# Altium footprint library libreriaPcb.PcbLib: 683 footprints (part 27 of 44)
Each footprint in its own frame and in the unit in brackets; x right, y up, seen from the top. Pads: shape width x height; smd on the part's side, far side on the other; paste and mask are expansions set on the pad; w line width, h text height; cw(c..) or ccw(c..) is an arc to the next point about the centre after c.
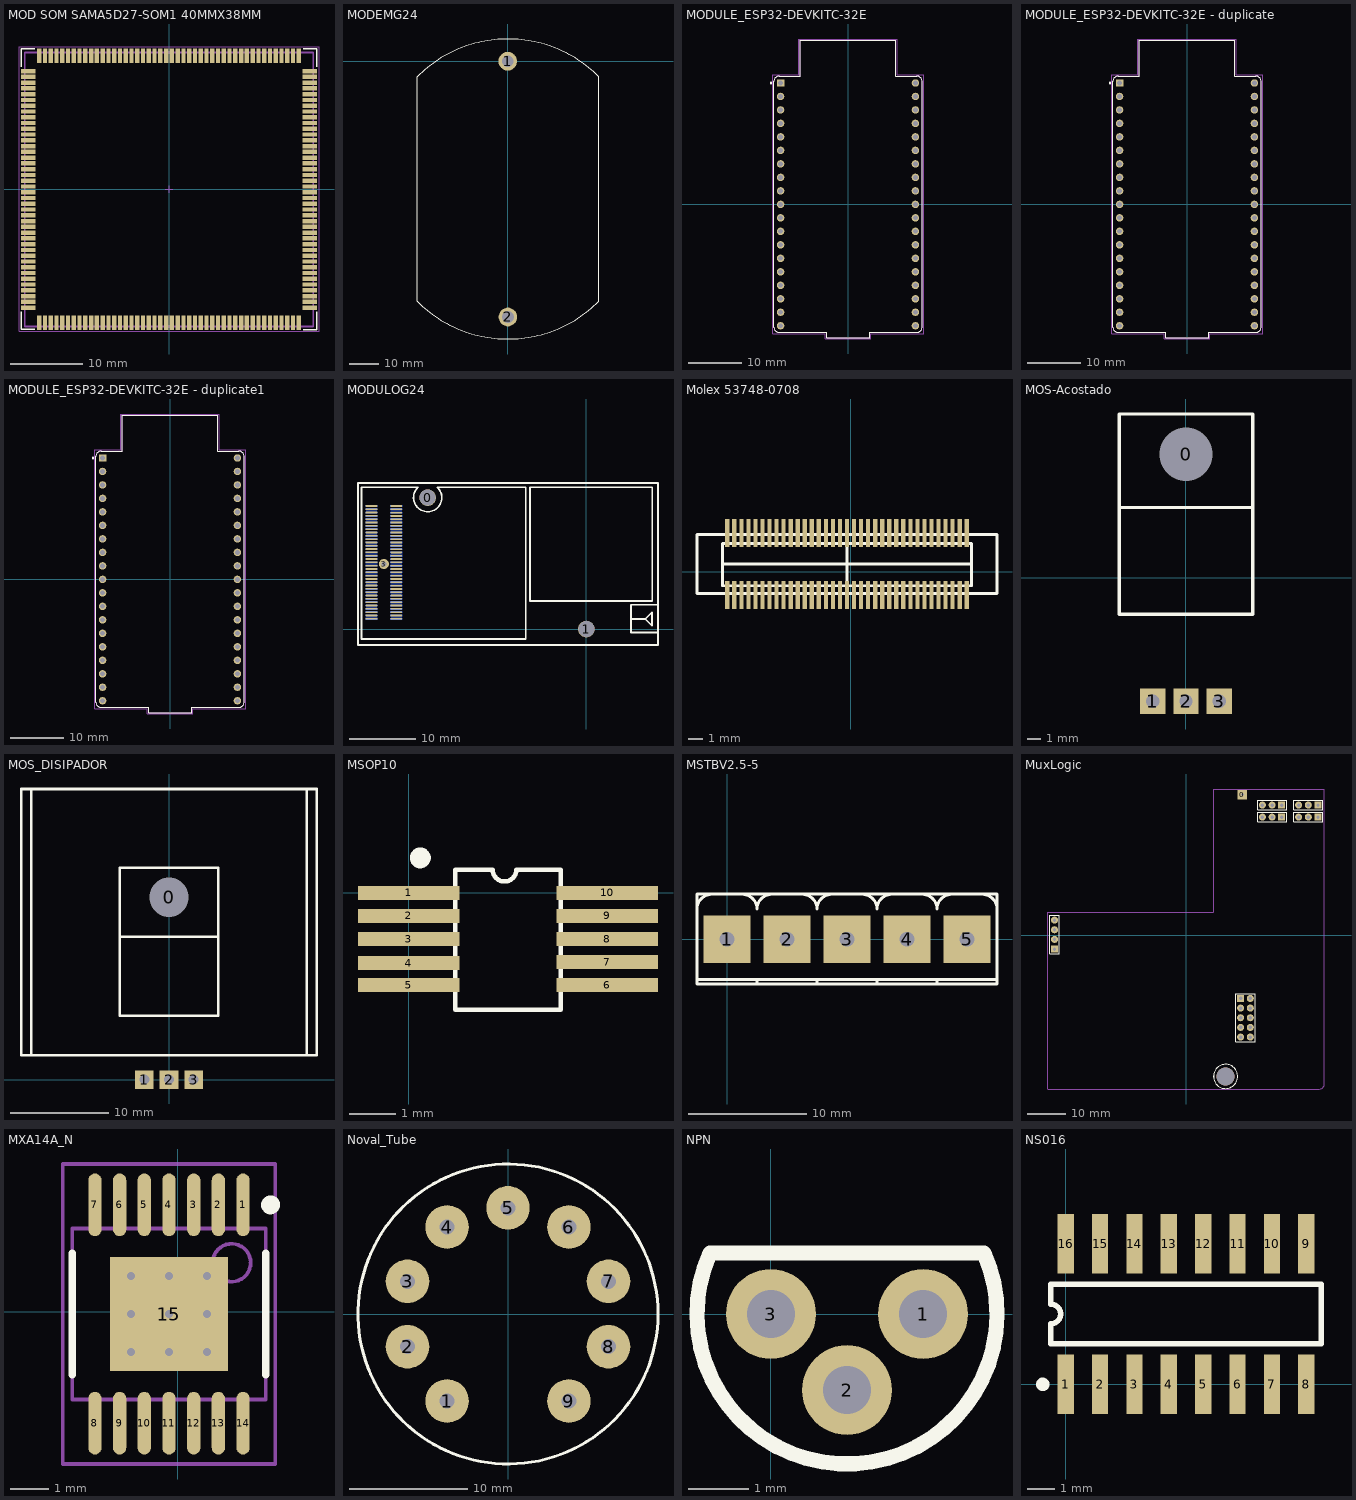
[diagram p26: the footprints below, top view; thin cyan lines are the x and y axes]

## MOD SOM SAMA5D27-SOM1 40MMX38MM [mm]
pads (176):
  rect 2x0.6 smd paste-0.025 mask-1: 1(-19.5,16.4) 2(-19.5,15.6) 3(-19.5,14.8) 4(-19.5,14) 5(-19.5,13.2) 6(-19.5,12.4) 7(-19.5,11.6) 8(-19.5,10.8) 9(-19.5,10) 10(-19.5,9.2) 11(-19.5,8.4) 12(-19.5,7.6) 13(-19.5,6.8) 14(-19.5,6) 15(-19.5,5.2) 16(-19.5,4.4) 17(-19.5,3.6) 18(-19.5,2.8) 19(-19.5,2) 20(-19.5,1.2) 21(-19.5,0.4) 22(-19.5,-0.4) 23(-19.5,-1.2) 24(-19.5,-2) 25(-19.5,-2.8) 26(-19.5,-3.6) 27(-19.5,-4.4) 28(-19.5,-5.2) 29(-19.5,-6) 30(-19.5,-6.8) 31(-19.5,-7.6) 32(-19.5,-8.4) 33(-19.5,-9.2) 34(-19.5,-10) 35(-19.5,-10.8) 36(-19.5,-11.6) 37(-19.5,-12.4) 38(-19.5,-13.2) 39(-19.5,-14) 40(-19.5,-14.8) 41(-19.5,-15.6) 42(-19.5,-16.4) 89(19.5,-16.4) 90(19.5,-15.6) 91(19.5,-14.8) 92(19.5,-14) 93(19.5,-13.2) 94(19.5,-12.4) 95(19.5,-11.6) 96(19.5,-10.8) 97(19.5,-10) 98(19.5,-9.2) 99(19.5,-8.4) 100(19.5,-7.6) 101(19.5,-6.8) 102(19.5,-6) 103(19.5,-5.2) 104(19.5,-4.4) 105(19.5,-3.6) 106(19.5,-2.8) 107(19.5,-2) 108(19.5,-1.2) 109(19.5,-0.4) 110(19.5,0.4) 111(19.5,1.2) 112(19.5,2) 113(19.5,2.8) 114(19.5,3.6) 115(19.5,4.4) 116(19.5,5.2) 117(19.5,6) 118(19.5,6.8) 119(19.5,7.6) 120(19.5,8.4) 121(19.5,9.2) 122(19.5,10) 123(19.5,10.8) 124(19.5,11.6) 125(19.5,12.4) 126(19.5,13.2) 127(19.5,14) 128(19.5,14.8) 129(19.5,15.6) 130(19.5,16.4)
  rect 0.6x2 smd paste-0.025 mask-1: 43(-18,-18.5) 44(-17.2,-18.5) 45(-16.4,-18.5) 46(-15.6,-18.5) 47(-14.8,-18.5) 48(-14,-18.5) 49(-13.2,-18.5) 50(-12.4,-18.5) 51(-11.6,-18.5) 52(-10.8,-18.5) 53(-10,-18.5) 54(-9.2,-18.5) 55(-8.4,-18.5) 56(-7.6,-18.5) 57(-6.8,-18.5) 58(-6,-18.5) 59(-5.2,-18.5) 60(-4.4,-18.5) 61(-3.6,-18.5) 62(-2.8,-18.5) 63(-2,-18.5) 64(-1.2,-18.5) 65(-0.4,-18.5) 66(0.4,-18.5) 67(1.2,-18.5) 68(2,-18.5) 69(2.8,-18.5) 70(3.6,-18.5) 71(4.4,-18.5) 72(5.2,-18.5) 73(6,-18.5) 74(6.8,-18.5) 75(7.6,-18.5) 76(8.4,-18.5) 77(9.2,-18.5) 78(10,-18.5) 79(10.8,-18.5) 80(11.6,-18.5) 81(12.4,-18.5) 82(13.2,-18.5) 83(14,-18.5) 84(14.8,-18.5) 85(15.6,-18.5) 86(16.4,-18.5) 87(17.2,-18.5) 88(18,-18.5) 131(18,18.5) 132(17.2,18.5) 133(16.4,18.5) 134(15.6,18.5) 135(14.8,18.5) 136(14,18.5) 137(13.2,18.5) 138(12.4,18.5) 139(11.6,18.5) 140(10.8,18.5) 141(10,18.5) 142(9.2,18.5) 143(8.4,18.5) 144(7.6,18.5) 145(6.8,18.5) 146(6,18.5) 147(5.2,18.5) 148(4.4,18.5) 149(3.6,18.5) 150(2.8,18.5) 151(2,18.5) 152(1.2,18.5) 153(0.4,18.5) 154(-0.4,18.5) 155(-1.2,18.5) 156(-2,18.5) 157(-2.8,18.5) 158(-3.6,18.5) 159(-4.4,18.5) 160(-5.2,18.5) 161(-6,18.5) 162(-6.8,18.5) 163(-7.6,18.5) 164(-8.4,18.5) 165(-9.2,18.5) 166(-10,18.5) 167(-10.8,18.5) 168(-11.6,18.5) 169(-12.4,18.5) 170(-13.2,18.5) 171(-14,18.5) 172(-14.8,18.5) 173(-15.6,18.5) 174(-16.4,18.5) 175(-17.2,18.5) 176(-18,18.5)
Top Overlay:
  lines w0.2: -20.5,-17 -20.5,-19.4 -18.6,-19.4 ; -20.5,17 -20.5,19.5 -18.6,19.5 ; 18.6,-19.5 20.5,-19.5 20.5,-17 ; 18.6,19.5 20.5,19.5 20.5,17
  text "." at -21.7,18.6 h1
Top Solder:
  drawing of 176 lines, arcs and shapes, not listed
Mechanical 11:
  lines w0.254: -20,-19 -20,19 20,19 20,-19 -20,-19
  text "1" at -20.2,16.5 h1
Mechanical 15:
  lines w0.1: -0.5,0 0.5,0 ; 0,-0.5 0,0.5 ; -20.8,-19.7 20.8,-19.7 20.8,19.8 -20.8,19.8 -20.8,-19.7
3D body: height 1.2, standoff 0.8, extent -1.1,-10.2 12.6,3.5
3D body: height 1.2, standoff 0.8, extent -13.6,-12.6 -9.8,-8.9
3D body: height 1.2, standoff 0.8, extent -6.95,13.05 -5.45,14.55
3D body: height 1.2, standoff 0.8, extent -12.7,10.1 -9.7,13.1
3D body: height 1.2, standoff 0.8, extent 6.4,7.45 12,12.35
3D body: height 1, standoff 0, extent -20,-19 20,19

## MODEMG24 [mm]
pads (2):
  round 6.35 hole 4: 1(0,0) 2(0.064,-86.988)
Top Overlay:
  lines w0.254: -30.788,-5.239 -30.81,-81.679 ccw(c0.081,-50.782) 30.978,-81.673 31,-5.232 ; -30.788,-5.239 cw(c0.109,-36.13) 31,-5.233

## MODULE_ESP32-DEVKITC-32E [mm]
pads (38):
  rect 1.408x1.408 / inner round 1.408 / far side rect 1.408x1.408 hole 0.9: J2_1(-12.7,22.835)
  round 1.408 hole 0.9: J2_2(-12.7,20.295) J2_3(-12.7,17.755) J2_4(-12.7,15.215) J2_5(-12.7,12.675) J2_6(-12.7,10.135) J2_7(-12.7,7.595) J2_8(-12.7,5.055) J2_9(-12.7,2.515) J2_10(-12.7,-0.025) J2_11(-12.7,-2.565) J2_12(-12.7,-5.105) J2_13(-12.7,-7.645) J2_14(-12.7,-10.185) J2_15(-12.7,-12.725) J2_16(-12.7,-15.265) J2_17(-12.7,-17.805) J2_18(-12.7,-20.345) J2_19(-12.7,-22.885) J3_1(12.7,22.835) J3_2(12.7,20.295) J3_3(12.7,17.755) J3_4(12.7,15.215) J3_5(12.7,12.675) J3_6(12.7,10.135) J3_7(12.7,7.595) J3_8(12.7,5.055) J3_9(12.7,2.515) J3_10(12.7,-0.025) J3_11(12.7,-2.565) J3_12(12.7,-5.105) J3_13(12.7,-7.645) J3_14(12.7,-10.185) J3_15(12.7,-12.725) J3_16(12.7,-15.265) J3_17(12.7,-17.805) J3_18(12.7,-20.345) J3_19(12.7,-22.885)
Top Overlay:
  circle w0.2: c-14.5,22.835 r0.1
  lines w0.127: -13.97,-23.13 ccw(c-12.97,-23.13) -12.97,-24.13 -4.05,-24.13 -4.05,-25.13 4.05,-25.13 4.05,-24.13 12.97,-24.13 ccw(c12.97,-23.13) 13.97,-23.13 13.97,23.13 ccw(c12.97,23.13) 12.97,24.13 9,24.13 9,30.87 -9,30.87 -9,24.13 -12.97,24.13 ccw(c-12.97,23.13) -13.97,23.13 -13.97,-23.13
Mechanical 13:
  circle w0.2: c-14.5,22.835 r0.1
  lines w0.127: -13.97,-23.13 ccw(c-12.97,-23.13) -12.97,-24.13 -4.05,-24.13 -4.05,-25.13 4.05,-25.13 4.05,-24.13 12.97,-24.13 ccw(c12.97,-23.13) 13.97,-23.13 13.97,23.13 ccw(c12.97,23.13) 12.97,24.13 9,24.13 9,30.87 -9,30.87 -9,24.13 -12.97,24.13 ccw(c-12.97,23.13) -13.97,23.13 -13.97,-23.13
Mechanical 15:
  lines w0.05: -14.22,-24.38 -4.3,-24.38 -4.3,-25.38 4.3,-25.38 4.3,-24.38 14.22,-24.38 14.22,24.38 9.25,24.38 9.25,31.12 -9.25,31.12 -9.25,24.38 -14.22,24.38 -14.22,-24.38
3D body "step_temp.STEP": height 6.69, standoff -6, extent -13.97,-24.8 13.97,30.3

## MODULE_ESP32-DEVKITC-32E - duplicate [mm]
pads (38):
  rect 1.408x1.408 / inner round 1.408 / far side rect 1.408x1.408 hole 0.9: J2_1(-12.7,22.835)
  round 1.408 hole 0.9: J2_2(-12.7,20.295) J2_3(-12.7,17.755) J2_4(-12.7,15.215) J2_5(-12.7,12.675) J2_6(-12.7,10.135) J2_7(-12.7,7.595) J2_8(-12.7,5.055) J2_9(-12.7,2.515) J2_10(-12.7,-0.025) J2_11(-12.7,-2.565) J2_12(-12.7,-5.105) J2_13(-12.7,-7.645) J2_14(-12.7,-10.185) J2_15(-12.7,-12.725) J2_16(-12.7,-15.265) J2_17(-12.7,-17.805) J2_18(-12.7,-20.345) J2_19(-12.7,-22.885) J3_1(12.7,22.835) J3_2(12.7,20.295) J3_3(12.7,17.755) J3_4(12.7,15.215) J3_5(12.7,12.675) J3_6(12.7,10.135) J3_7(12.7,7.595) J3_8(12.7,5.055) J3_9(12.7,2.515) J3_10(12.7,-0.025) J3_11(12.7,-2.565) J3_12(12.7,-5.105) J3_13(12.7,-7.645) J3_14(12.7,-10.185) J3_15(12.7,-12.725) J3_16(12.7,-15.265) J3_17(12.7,-17.805) J3_18(12.7,-20.345) J3_19(12.7,-22.885)
Top Overlay:
  circle w0.2: c-14.5,22.835 r0.1
  lines w0.127: -13.97,-23.13 ccw(c-12.97,-23.13) -12.97,-24.13 -4.05,-24.13 -4.05,-25.13 4.05,-25.13 4.05,-24.13 12.97,-24.13 ccw(c12.97,-23.13) 13.97,-23.13 13.97,23.13 ccw(c12.97,23.13) 12.97,24.13 9,24.13 9,30.87 -9,30.87 -9,24.13 -12.97,24.13 ccw(c-12.97,23.13) -13.97,23.13 -13.97,-23.13
Mechanical 13:
  circle w0.2: c-14.5,22.835 r0.1
  lines w0.127: -13.97,-23.13 ccw(c-12.97,-23.13) -12.97,-24.13 -4.05,-24.13 -4.05,-25.13 4.05,-25.13 4.05,-24.13 12.97,-24.13 ccw(c12.97,-23.13) 13.97,-23.13 13.97,23.13 ccw(c12.97,23.13) 12.97,24.13 9,24.13 9,30.87 -9,30.87 -9,24.13 -12.97,24.13 ccw(c-12.97,23.13) -13.97,23.13 -13.97,-23.13
Mechanical 15:
  lines w0.05: -14.22,-24.38 -14.22,24.38 -9.25,24.38 -9.25,31.12 9.25,31.12 9.25,24.38 14.22,24.38 14.22,-24.38 4.3,-24.38 4.3,-25.38 -4.3,-25.38 -4.3,-24.38 -14.22,-24.38
3D body "step_temp.STEP": height 6.69, standoff -6, extent -13.97,-24.8 13.97,30.3

## MODULE_ESP32-DEVKITC-32E - duplicate1 [mm]
pads (38):
  rect 1.408x1.408 / inner round 1.408 / far side rect 1.408x1.408 hole 0.9: J2_1(-12.7,22.835)
  round 1.408 hole 0.9: J2_2(-12.7,20.295) J2_3(-12.7,17.755) J2_4(-12.7,15.215) J2_5(-12.7,12.675) J2_6(-12.7,10.135) J2_7(-12.7,7.595) J2_8(-12.7,5.055) J2_9(-12.7,2.515) J2_10(-12.7,-0.025) J2_11(-12.7,-2.565) J2_12(-12.7,-5.105) J2_13(-12.7,-7.645) J2_14(-12.7,-10.185) J2_15(-12.7,-12.725) J2_16(-12.7,-15.265) J2_17(-12.7,-17.805) J2_18(-12.7,-20.345) J2_19(-12.7,-22.885) J3_1(12.7,22.835) J3_2(12.7,20.295) J3_3(12.7,17.755) J3_4(12.7,15.215) J3_5(12.7,12.675) J3_6(12.7,10.135) J3_7(12.7,7.595) J3_8(12.7,5.055) J3_9(12.7,2.515) J3_10(12.7,-0.025) J3_11(12.7,-2.565) J3_12(12.7,-5.105) J3_13(12.7,-7.645) J3_14(12.7,-10.185) J3_15(12.7,-12.725) J3_16(12.7,-15.265) J3_17(12.7,-17.805) J3_18(12.7,-20.345) J3_19(12.7,-22.885)
Top Overlay:
  circle w0.2: c-14.5,22.835 r0.1
  lines w0.127: -13.97,-23.13 ccw(c-12.97,-23.13) -12.97,-24.13 -4.05,-24.13 -4.05,-25.13 4.05,-25.13 4.05,-24.13 12.97,-24.13 ccw(c12.97,-23.13) 13.97,-23.13 13.97,23.13 ccw(c12.97,23.13) 12.97,24.13 9,24.13 9,30.87 -9,30.87 -9,24.13 -12.97,24.13 ccw(c-12.97,23.13) -13.97,23.13 -13.97,-23.13
Mechanical 13:
  circle w0.2: c-14.5,22.835 r0.1
  lines w0.127: -13.97,-23.13 ccw(c-12.97,-23.13) -12.97,-24.13 -4.05,-24.13 -4.05,-25.13 4.05,-25.13 4.05,-24.13 12.97,-24.13 ccw(c12.97,-23.13) 13.97,-23.13 13.97,23.13 ccw(c12.97,23.13) 12.97,24.13 9,24.13 9,30.87 -9,30.87 -9,24.13 -12.97,24.13 ccw(c-12.97,23.13) -13.97,23.13 -13.97,-23.13
Mechanical 15:
  lines w0.05: -14.22,-24.38 -4.3,-24.38 -4.3,-25.38 4.3,-25.38 4.3,-24.38 14.22,-24.38 14.22,24.38 9.25,24.38 9.25,31.12 -9.25,31.12 -9.25,24.38 -14.22,24.38 -14.22,-24.38
3D body "step_temp.STEP": height 6.69, standoff -6, extent -13.97,-24.8 13.97,30.3

## MODULOG24 [mm]
pads (144):
  round 0.254 on Top Overlay: 0(-30.5,9.8)
  round 2.5 hole 2.4: 0(-23.9,19.8) 1(0,0)
  round 1.524 hole 0.762: 3(-30.5,9.8)
  rect 1.8x0.25 smd: A1(-32.367,1.55) A10(-32.367,6.05) A20(-32.367,11.05) A30(-32.367,16.05) A41(-28.633,16.043) A51(-28.633,11.043) A61(-28.633,6.043)
  oval 1.8x0.25 smd: A2(-32.367,2.05) A3(-32.367,2.55) A4(-32.367,3.05) A5(-32.367,3.55) A6(-32.367,4.05) A7(-32.367,4.55) A8(-32.367,5.05) A9(-32.367,5.55) A11(-32.367,6.55) A12(-32.367,7.05) A13(-32.367,7.55) A14(-32.367,8.05) A15(-32.367,8.55) A16(-32.367,9.05) A17(-32.367,9.55) A18(-32.367,10.05) A19(-32.367,10.55) A21(-32.367,11.55) A22(-32.367,12.05) A23(-32.367,12.55) A24(-32.367,13.05) A25(-32.367,13.55) A26(-32.367,14.05) A27(-32.367,14.55) A28(-32.367,15.05) A29(-32.367,15.55) A31(-32.367,16.55) A32(-32.367,17.05) A33(-32.367,17.55) A34(-32.367,18.05) A35(-32.367,18.55) A36(-28.633,18.543) A37(-28.633,18.043) A38(-28.633,17.543) A39(-28.633,17.043) A40(-28.633,16.543) A42(-28.633,15.543) A43(-28.633,15.043) A44(-28.633,14.543) A45(-28.633,14.043) A46(-28.633,13.543) A47(-28.633,13.043) A48(-28.633,12.543) A49(-28.633,12.043) A50(-28.633,11.543) A52(-28.633,10.543) A53(-28.633,10.043) A54(-28.633,9.543) A55(-28.633,9.043) A56(-28.633,8.543) A57(-28.633,8.043) A58(-28.633,7.543) A59(-28.633,7.043) A60(-28.633,6.543) A62(-28.633,5.543) A63(-28.633,5.043) A64(-28.633,4.543) A65(-28.633,4.043) A66(-28.633,3.543) A67(-28.633,3.043) A68(-28.633,2.543) A69(-28.633,2.043) A70(-28.633,1.543)
  rect 1.8x0.25 smd far side: B1(-32.367,1.55) B10(-32.367,6.05) B20(-32.367,11.05) B30(-32.367,16.05) B41(-28.633,16.043) B51(-28.633,11.043) B61(-28.633,6.043)
  oval 1.8x0.25 smd far side: B2(-32.367,2.05) B3(-32.367,2.55) B4(-32.367,3.05) B5(-32.367,3.55) B6(-32.367,4.05) B7(-32.367,4.55) B8(-32.367,5.05) B9(-32.367,5.55) B11(-32.367,6.55) B12(-32.367,7.05) B13(-32.367,7.55) B14(-32.367,8.05) B15(-32.367,8.55) B16(-32.367,9.05) B17(-32.367,9.55) B18(-32.367,10.05) B19(-32.367,10.55) B21(-32.367,11.55) B22(-32.367,12.05) B23(-32.367,12.55) B24(-32.367,13.05) B25(-32.367,13.55) B26(-32.367,14.05) B27(-32.367,14.55) B28(-32.367,15.05) B29(-32.367,15.55) B31(-32.367,16.55) B32(-32.367,17.05) B33(-32.367,17.55) B34(-32.367,18.05) B35(-32.367,18.55) B36(-28.633,18.543) B37(-28.633,18.043) B38(-28.633,17.543) B39(-28.633,17.043) B40(-28.633,16.543) B42(-28.633,15.543) B43(-28.633,15.043) B44(-28.633,14.543) B45(-28.633,14.043) B46(-28.633,13.543) B47(-28.633,13.043) B48(-28.633,12.543) B49(-28.633,12.043) B50(-28.633,11.543) B52(-28.633,10.543) B53(-28.633,10.043) B54(-28.633,9.543) B55(-28.633,9.043) B56(-28.633,8.543) B57(-28.633,8.043) B58(-28.633,7.543) B59(-28.633,7.043) B60(-28.633,6.543) B62(-28.633,5.543) B63(-28.633,5.043) B64(-28.633,4.543) B65(-28.633,4.043) B66(-28.633,3.543) B67(-28.633,3.043) B68(-28.633,2.543) B69(-28.633,2.043) B70(-28.633,1.543)
Top Overlay:
  lines w0.254: 6.731,1.524 8.89,1.524 ; 10.8,-0.508 6.731,-0.508 6.731,3.683 10.8,3.683 ; 8.89,1.524 9.906,0.508 9.906,2.54 8.89,1.524 ; -34.4,-2.4 -34.4,22 10.8,22 10.8,-2.4 -34.4,-2.4 ; -33.865,-1.495 -33.865,21.34 -25.362,21.344 ccw(c-23.9,19.8) -22.46,21.365 -9.125,21.365 -9.125,-1.495 -33.865,-1.495 ; -8.49,4.22 -8.49,21.365 9.925,21.365 9.925,4.22 -8.49,4.22

## Molex 53748-0708 [mm]
pads (70):
  rect 0.3x2 smd: 1(8.25,-1.65) 2(8.25,2.75) 3(7.75,-1.65) 4(7.75,2.75) 5(7.25,-1.65) 6(7.25,2.75) 7(6.75,-1.65) 8(6.75,2.75) 9(6.25,-1.65) 10(6.25,2.75) 11(5.75,-1.65) 12(5.75,2.75) 13(5.25,-1.65) 14(5.25,2.75) 15(4.75,-1.65) 16(4.75,2.75) 17(4.25,-1.65) 18(4.25,2.75) 19(3.75,-1.65) 20(3.75,2.75) 21(3.25,-1.65) 22(3.25,2.75) 23(2.75,-1.65) 24(2.75,2.75) 25(2.25,-1.65) 26(2.25,2.75) 27(1.75,-1.65) 28(1.75,2.75) 29(1.25,-1.65) 30(1.25,2.75) 31(0.75,-1.65) 32(0.75,2.75) 33(0.25,-1.65) 34(0.25,2.75) 35(-0.25,-1.65) 36(-0.25,2.75) 37(-0.75,-1.65) 38(-0.75,2.75) 39(-1.25,-1.65) 40(-1.25,2.75) 41(-1.75,-1.65) 42(-1.75,2.75) 43(-2.25,-1.65) 44(-2.25,2.75) 45(-2.75,-1.65) 46(-2.75,2.75) 47(-3.25,-1.65) 48(-3.25,2.75) 49(-3.75,-1.65) 50(-3.75,2.75) 51(-4.25,-1.65) 52(-4.25,2.75) 53(-4.75,-1.65) 54(-4.75,2.75) 55(-5.25,-1.65) 56(-5.25,2.75) 57(-5.75,-1.65) 58(-5.75,2.75) 59(-6.25,-1.65) 60(-6.25,2.75) 61(-6.75,-1.65) 62(-6.75,2.75) 63(-7.25,-1.65) 64(-7.25,2.75) 65(-7.75,-1.65) 66(-7.75,2.75) 67(-8.25,-1.65) 68(-8.25,2.75) 69(-8.75,-1.65) 70(-8.75,2.75)
Top Overlay:
  lines w0.2: -9.1,0.55 8.6,0.55 ; -0.25,-1 -0.25,2 ; -10.9,-1.55 -9.1,-1.55 8.6,-1.55 10.4,-1.55 10.4,2.65 8.6,2.65 -9.1,2.65 -10.9,2.65 -10.9,-1.55 ; -9.1,-1 -9.1,0 -9.1,2 8.6,2 8.6,-1 -9.1,-1
3D body "537480708.stp": height 2.2, standoff -0.22, extent -10.9,-1.6 10.4,2.7

## MOS-Acostado [mm]
pads (4):
  round 3 hole 4: 0(0,9.25)
  rect 1.9x1.9 hole 1: 1(-2.5,-9.25) 2(0,-9.25) 3(2.5,-9.25)
Top Overlay:
  lines w0.254: -5,5.25 -5,12.25 0,12.25 5,12.25 5,5.25 ; -5,5.25 0,5.25 5,5.25 ; -5,5.25 -5,-2.75 5,-2.75 5,5.25
3D body: height 4, standoff 0, extent -5,-2.75 5,5.25
3D body: height 2, standoff 0, extent -5,5.4 5,12.3
3D body: height 2.1, standoff 0, extent -1.984,7.254 2,11.246
3D body: height 2.5, standoff 2, extent -3.3,-9.35 -1.7,-2.75
3D body: height 2.5, standoff 2, extent -0.8,-9.45 0.8,-2.85
3D body: height 2.5, standoff 2, extent 1.7,-9.45 3.3,-2.85
3D body: height 2.5, standoff 0, extent 2,-9.55 3,-9.35
3D body: height 2.5, standoff 0, extent -0.5,-9.55 0.5,-9.35
3D body: height 2.5, standoff 0, extent -3,-9.45 -2,-9.25

## MOS_DISIPADOR [mm]
pads (4):
  round 3 hole 4: 0(0,18.5)
  rect 1.9x1.9 hole 1: 1(-2.5,0) 2(0,0) 3(2.5,0)
Top Overlay:
  lines w0.254: -14,2.5 -14,29.5 ; 14,2.5 14,29.5 ; -14,29.5 14,29.5 ; -14,29.5 -15,29.5 -15,2.5 15,2.5 15,29.5 14,29.5 ; -5,14.5 -5,21.5 0,21.5 5,21.5 5,14.5 ; -5,14.5 0,14.5 5,14.5 ; -5,14.5 -5,6.5 5,6.5 5,14.5
3D body: height 12, standoff 0, extent 13.901,2.501 14.899,29.499
3D body: height 12, standoff 0, extent -14.999,2.501 -14.001,29.499
3D body: height 1, standoff 0, extent -15.127,2.373 15.127,29.627
3D body: height 4, standoff 0, extent -5,6.5 5,14.5
3D body: height 2, standoff 0, extent -5,14.65 5,21.55
3D body: height 2.1, standoff 0, extent -1.984,16.504 2,20.496
3D body: height 2.5, standoff 2, extent -3.3,-0.1 -1.7,6.5
3D body: height 2.5, standoff 2, extent -0.8,-0.2 0.8,6.4
3D body: height 2.5, standoff 2, extent 1.7,-0.2 3.3,6.4
3D body: height 2.5, standoff 0, extent 2,-0.3 3,-0.1
3D body: height 2.5, standoff 0, extent -0.5,-0.3 0.5,-0.1
3D body: height 2.5, standoff 0, extent -3,-0.2 -2,0

## MSOP10 [mm]
pads (10):
  rect 2.2x0.305 smd: 1(0,0) 2(0,-0.5) 3(0,-1.001) 4(0,-1.524) 5(0,-2.001) 6(4.318,-2.001) 7(4.318,-1.501) 8(4.318,-1.001) 9(4.318,-0.5) 10(4.318,0)
Top Overlay:
  circle w0.254: c0.254,0.762 r0.1
  lines w0.1: 1.016,-2.54 3.302,-2.54 3.302,0.508 2.342,0.508 cw(c2.083,0.508) 1.824,0.508 1.016,0.508 1.016,-2.54

## MSTBV2.5-5 [mm]
pads (5):
  rect 4x4 hole 1.25: 1(0,0) 2(5.08,0) 3(10.16,0) 4(15.24,0) 5(20.32,0)
Top Overlay:
  lines w0.254: -2.54,-3.429 12.7,-3.429 12.7,-3.81 ; -2.54,2.54 cw(c-1.27,2.54) -1.27,3.81 ; 1.27,3.81 cw(c1.27,2.54) 2.54,2.54 cw(c3.81,2.54) 3.81,3.81 ; 2.54,-3.81 2.54,-3.429 ; 6.35,3.81 cw(c6.35,2.54) 7.62,2.54 cw(c8.89,2.54) 8.89,3.81 ; 11.43,3.81 cw(c11.43,2.54) 12.7,2.54 cw(c13.97,2.54) 13.97,3.81 ; 16.51,3.81 cw(c16.51,2.54) 17.78,2.54 cw(c19.05,2.54) 19.05,3.81 ; 17.78,-3.81 17.78,-3.429 ; 21.59,3.81 cw(c21.59,2.54) 22.86,2.54 ; 22.86,-3.81 -2.54,-3.81 ; 22.86,-3.79 22.86,3.835 -2.54,3.835 -2.54,-3.81 ; 22.86,-3.429 7.62,-3.429 7.62,-3.81 -2.54,-3.81

## MuxLogic [mm]
pads (27):
  rect 2.5x2.5 hole 0.762: 0(14.77,37.033)
  rect 1.85x1.85 hole 0.9: 1(-34.608,-3.581) 11(14.287,-16.535) 21(25.082,31.09) 31(25.082,34.265) 41(34.608,31.09) 51(34.608,34.265)
  round 1.85 hole 0.9: 2(-34.608,-1.041) 3(-34.608,1.499) 4(-34.608,4.039) 12(16.828,-16.535) 13(14.287,-19.075) 14(16.828,-19.075) 15(14.287,-21.615) 16(16.828,-21.615) 17(14.287,-24.155) 18(16.828,-24.155) 19(14.287,-26.695) 22(22.543,31.09) 23(20.002,31.09) 32(22.543,34.265) 33(20.002,34.265) 42(32.067,31.09) 43(29.527,31.09) 52(32.067,34.265) 53(29.527,34.265) 110(16.828,-26.695)
via 10.351,-37.033 diameter 4.7 hole 4.7
Top Overlay:
  circle w0.254: c10.325,-37.033 r3.175
  circle w0.254: c10.351,-37.033 r3.175
  lines w0.2: 18.732,29.82 18.732,32.36 ; 18.732,29.82 26.352,29.82 ; 18.732,29.82 18.732,32.36 ; 18.732,29.82 26.352,29.82 ; 18.732,32.36 26.352,32.36 ; 18.732,32.36 26.352,32.36 ; 18.732,32.995 18.732,35.535 ; 18.732,32.995 26.352,32.995 ; 18.732,32.995 18.732,35.535 ; 18.732,32.995 26.352,32.995 ; 18.732,35.535 26.352,35.535 ; 18.732,35.535 26.352,35.535 ; 26.352,29.82 26.352,32.36 ; 26.352,29.82 26.352,32.36 ; 26.352,32.995 26.352,35.535 ; 26.352,32.995 26.352,35.535 ; 28.258,29.82 28.258,32.36 ; 28.258,29.82 35.877,29.82 ; 28.258,29.82 28.258,32.36 ; 28.258,29.82 35.877,29.82 ; 28.258,32.36 35.877,32.36 ; 28.258,32.36 35.877,32.36 ; 28.258,32.995 28.258,35.535 ; 28.258,32.995 35.877,32.995 ; 28.258,32.995 28.258,35.535 ; 28.258,32.995 35.877,32.995 ; 28.258,35.535 35.877,35.535 ; 28.258,35.535 35.877,35.535 ; 35.877,29.82 35.877,32.36 ; 35.877,29.82 35.877,32.36 ; 35.877,32.995 35.877,35.535 ; 35.877,32.995 35.877,35.535 ; -35.877,-4.851 -35.877,5.309 -33.337,5.309 -33.337,-4.851 -35.877,-4.851 ; 13.018,-27.965 13.018,-15.265 18.098,-15.265 18.098,-27.965 13.018,-27.965
Mechanical 1:
  lines w0.254: -36.386,-40.335 34.989,-40.335 ccw(c34.989,-39.065) 36.258,-39.065 36.258,38.481 7.201,38.481 7.201,6.096 ; -36.386,-40.31 -36.386,6.096 7.074,6.096
3D body: height 0.2, standoff -4, extent 13.037,-27.96 18.088,-15.285
3D body: height 0.2, standoff -4, extent 18.758,29.84 26.333,32.34
3D body: height 0.2, standoff -4, extent 18.758,33.015 26.333,35.515
3D body: height 0.2, standoff -4, extent 28.283,33.015 35.858,35.515
3D body: height 0.2, standoff -4, extent 28.283,29.84 35.858,32.34
3D body: height 0.2, standoff -4, extent -35.908,-4.851 -33.408,5.232
3D body: height 0, standoff -0.5, extent -36.512,-40.462 36.386,38.608

## MXA14A_N [mm]
pads (15):
  oval 0.35x1.65 smd: 1(1.724,2.812) 2(1.074,2.812) 3(0.424,2.812) 4(-0.226,2.812) 5(-0.876,2.812) 6(-1.526,2.812) 7(-2.176,2.812) 8(-2.176,-2.938) 9(-1.526,-2.938) 10(-0.876,-2.938) 11(-0.226,-2.938) 12(0.424,-2.938) 13(1.074,-2.938) 14(1.724,-2.938)
  rect 3.1x3 smd: 15(-0.226,-0.063)
via -0.226,0.937 diameter 0.4 hole 0.2
via -0.226,-0.063 diameter 0.4 hole 0.2
via -1.226,0.937 diameter 0.4 hole 0.2
via -1.226,-0.063 diameter 0.4 hole 0.2
via 0.774,-0.063 diameter 0.4 hole 0.2
via 0.774,0.937 diameter 0.4 hole 0.2
via -0.226,-1.063 diameter 0.4 hole 0.2
via -1.226,-1.063 diameter 0.4 hole 0.2
via 0.774,-1.063 diameter 0.4 hole 0.2
Top Overlay:
  circle w0.25: c2.449,2.812 r0.125
  lines w0.2: -2.776,-1.663 -2.776,1.537 ; 2.324,-1.663 2.324,1.537
Mechanical 13:
  circle w0.1: c1.424,1.287 r0.5
  lines w0.1: -2.776,-2.313 -2.776,2.187 2.324,2.187 2.324,-2.313 -2.776,-2.313
Mechanical 15:
  lines w0.1: -0.726,-0.063 0.274,-0.063 ; -0.226,-0.563 -0.226,0.437 ; -3.026,-4.013 -3.026,3.887 2.574,3.887 2.574,-4.013 -3.026,-4.013
3D body: height 1.1, standoff 0, extent -2.776,-2.313 2.324,2.187

## Noval_Tube [mil]
pads (9):
  round 145 / inner round 0 / far side round 150 hole 50 paste+0: 1(-203,-290)
  round 145 / inner round 0 / far side round 150 hole 50: 2(-335,-109) 3(-335,109) 4(-203,290) 5(0,354) 6(203,290) 7(335,109) 8(335,-109) 9(203,-290)
Top Overlay:
  circle w10: c0,0 r500

## NPN [mm]
pads (3):
  round 1.5 hole 0.8: 1(2.54,0) 2(1.27,-1.27) 3(0,0)
Top Overlay:
  lines w0.254: -1.016,1.016 ccw(c1.27,0) 3.556,1.016 -1.016,1.016

## NS016 [mm] "SMD"
pads (16):
  rect 0.6x2.2 smd: 1(0,0) 2(1.27,0) 3(2.54,0) 4(3.81,0) 5(5.08,0) 6(6.35,0) 7(7.62,0) 8(8.89,0) 9(8.89,5.2) 10(7.62,5.2) 11(6.35,5.2) 12(5.08,5.2) 13(3.81,5.2) 14(2.54,5.2) 15(1.27,5.2) 16(0,5.2)
Top Overlay:
  circle w0.25: c-0.85,0 r0.125
  lines w0.2: -0.555,1.5 9.445,1.5 9.445,3.7 -0.555,3.7 -0.555,2.967 cw(c-0.555,2.6) -0.555,2.233 -0.555,1.5